# Altium footprint library Passives-footprints.PcbLib: 6 footprints
Each footprint in its own frame and in the unit in brackets; x right, y up, seen from the top. Pads: shape width x height; smd on the part's side, far side on the other; paste and mask are expansions set on the pad; w line width, h text height; cw(c..) or ccw(c..) is an arc to the next point about the centre after c.
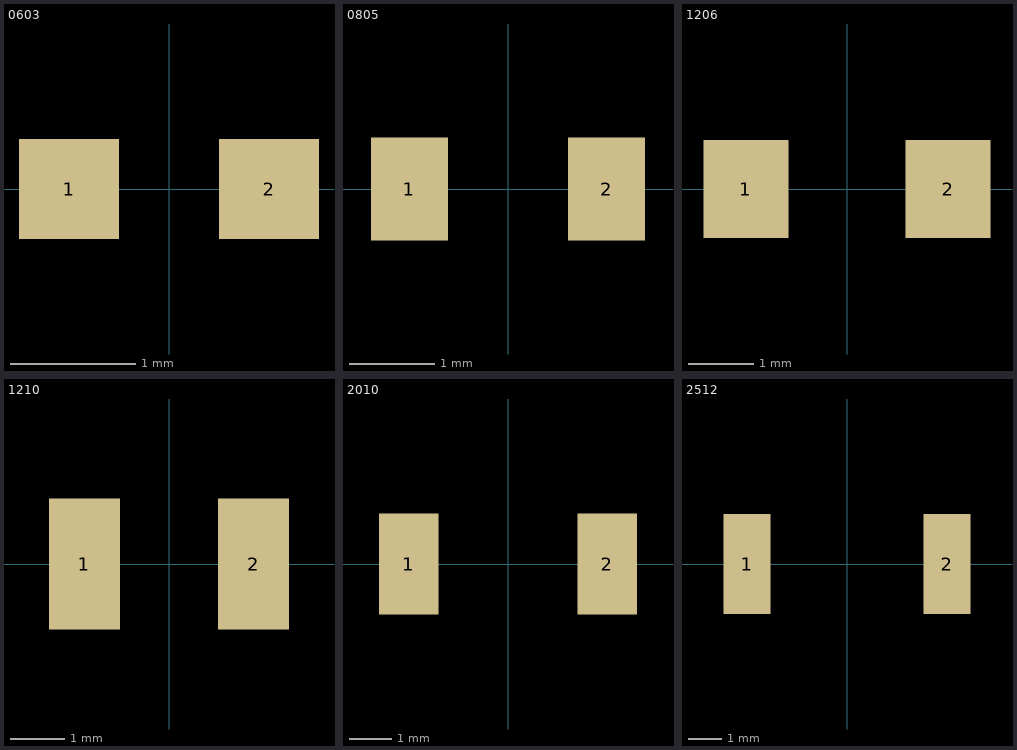
[diagram p0: the footprints below, top view; thin cyan lines are the x and y axes]

## 0603 [mm]
pads (2):
  rect 0.8x0.8 smd: 1(-0.8,0) 2(0.8,0)
3D body: height 0.46, standoff 0, extent -0.762,-0.381 -0.508,0.381
3D body: height 0.46, standoff 0, extent 0.508,-0.381 0.762,0.381
3D body: height 0.46, standoff 0, extent -0.508,-0.381 0.508,0.381

## 0805 [mm]
pads (2):
  rect 0.9x1.2 smd: 1(-1.15,0) 2(1.15,0)
3D body: height 0.55, standoff 0, extent -0.61,-0.61 0.61,0.61
3D body: height 0.55, standoff 0, extent 0.61,-0.61 1.016,0.61
3D body: height 0.55, standoff 0, extent -1.016,-0.61 -0.61,0.61

## 1206 [mm]
pads (2):
  rect 1.3x1.5 smd: 1(-1.55,0) 2(1.55,0)
3D body: height 0.55, standoff 0, extent -1.143,-0.762 1.143,0.762
3D body: height 0.55, standoff 0, extent 1.143,-0.762 1.6,0.762
3D body: height 0.55, standoff 0, extent -1.6,-0.762 -1.143,0.762

## 1210 [mm]
pads (2):
  rect 1.3x2.4 smd: 1(-1.55,0) 2(1.55,0)
3D body: height 0.55, standoff 0, extent -1.143,-1.27 1.143,1.27
3D body: height 0.55, standoff 0, extent 1.143,-1.27 1.6,1.27
3D body: height 0.55, standoff 0, extent -1.6,-1.27 -1.143,1.27

## 2010 [mm]
pads (2):
  rect 1.4x2.4 smd: 1(-2.35,0) 2(2.35,0)
3D body: height 0.55, standoff 0, extent -1.88,-1.245 1.88,1.245
3D body: height 0.55, standoff 0, extent 1.88,-1.245 2.489,1.245
3D body: height 0.55, standoff 0, extent -2.489,-1.245 -1.88,1.245

## 2512 [mm]
pads (2):
  rect 1.4x3 smd: 1(-3,0) 2(3,0)
3D body: height 0.55, standoff 0, extent -3.15,-1.6 -2.54,1.6
3D body: height 0.55, standoff 0, extent 2.54,-1.6 3.15,1.6
3D body: height 0.55, standoff 0, extent -2.54,-1.6 2.54,1.6